# EAGLE library part XBEE (library custom-connectors)
Receptacle 2mm, 10-positions
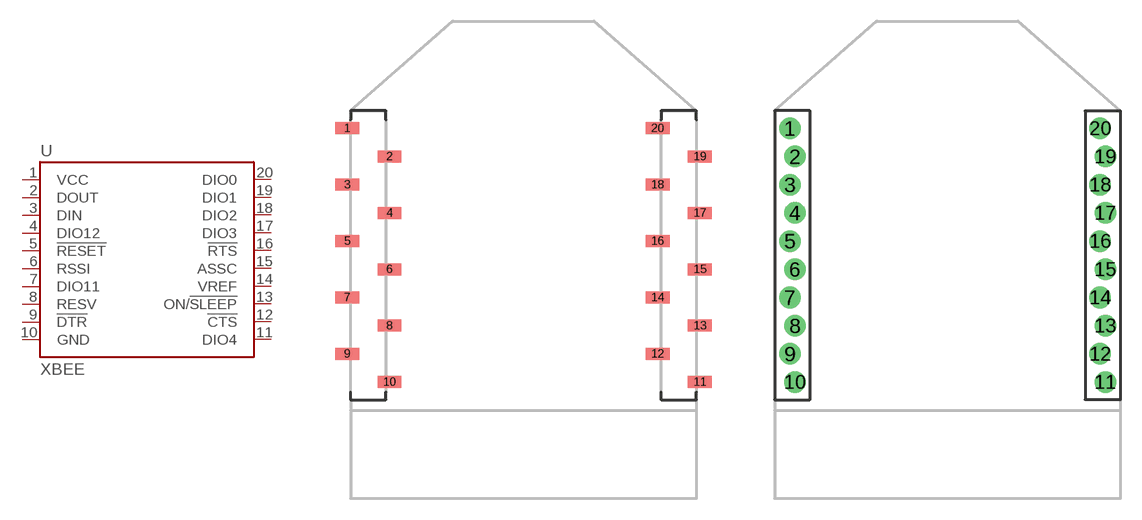
[diagram p7: symbol with the pads of XBEE_SMT; footprints XBEE_SMT, XBEE_TH]

Designator prefix U

## XBEE_SMT  [XBEE_SMT]
1  VCC  pwr
2  DOUT  out
3  DIN  in
4  DIO12
5  !RESET  in
6  RSSI
7  DIO11
8  RESV
9  !DTR
10  GND  pwr
11  DIO4
12  !CTS  out
13  ON/!SLEEP
14  VREF
15  ASSC
16  !RTS  in
17  DIO3
18  DIO2
19  DIO1
20  DIO0

## XBEE_TH (DIGI-KEY: SAM1230-10-ND)  [XBEE_TH]
Pads as for XBEE_SMT

## Footprint XBEE_SMT (pad centres in mm)
smd 1.7 x 0.85: 1 -12.5,20; 2 -9.5,18; 3 -12.5,16; 4 -9.5,14; 5 -12.5,12; 6 -9.5,10; 7 -12.5,8; 8 -9.5,6; 9 -12.5,4; 10 -9.5,2; 11 12.5,2; 12 9.5,4; 13 12.5,6; 14 9.5,8; 15 12.5,10; 16 9.5,12; 17 12.5,14; 18 9.5,16; 19 12.5,18; 20 9.5,20

## Footprint XBEE_TH (pad centres in mm)
drill 0.737 pad 1.524: 1 -11.178,20; 2 -10.822,18; 3 -11.178,16; 4 -10.822,14; 5 -11.178,12; 6 -10.822,10; 7 -11.178,8; 8 -10.822,6; 9 -11.178,4; 10 -10.822,2; 11 11.178,2; 12 10.822,4; 13 11.178,6; 14 10.822,8; 15 11.178,10; 16 10.822,12; 17 11.178,14; 18 10.822,16; 19 11.178,18; 20 10.822,20